# Altium footprint library Sensors.PcbLib: 3 footprints
Each footprint in its own frame and in the unit in brackets; x right, y up, seen from the top. Pads: shape width x height; smd on the part's side, far side on the other; paste and mask are expansions set on the pad; w line width, h text height; cw(c..) or ccw(c..) is an arc to the next point about the centre after c.
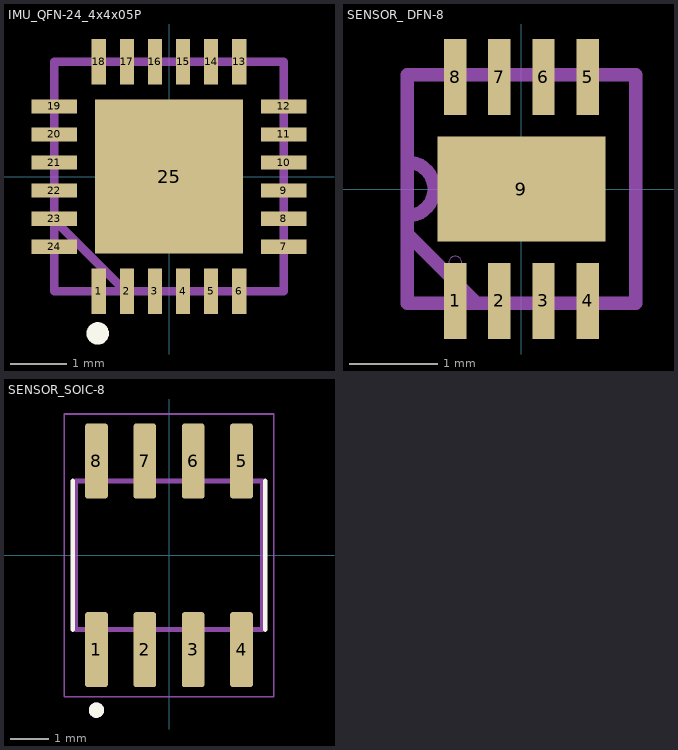
[diagram p0: the footprints below, top view; thin cyan lines are the x and y axes]

## IMU_QFN-24_4x4x05P [mil]
pads (25):
  rect 10x32 smd: 1(-49.21,-80.5) 2(-29.53,-80.5) 3(-9.84,-80.5) 4(9.84,-80.5) 5(29.53,-80.5) 6(49.21,-80.5) 13(49.21,80.5) 14(29.53,80.5) 15(9.84,80.5) 16(-9.84,80.5) 17(-29.53,80.5) 18(-49.21,80.5)
  rect 32x10 smd: 7(80.5,-49.21) 8(80.5,-29.53) 9(80.5,-9.84) 10(80.5,9.84) 11(80.5,29.53) 12(80.5,49.21) 19(-80.5,49.21) 20(-80.5,29.53) 21(-80.5,9.84) 22(-80.5,-9.84) 23(-80.5,-29.53) 24(-80.5,-49.21)
  rect 104x108 smd paste+0: 25(0,0)
Top Overlay:
  circle w7.87: c-50,-110 r3.94
Top Paste:
  region: 0,0 0,10 -10,10 -10,0
  region: 0,0 0,10 -10,10 -10,0
  region: 0,0 0,10 -10,10 -10,0
  region: 0,0 0,10 -10,10 -10,0
Assembly Top:
  lines w6: -80.5,-30.5 -30.5,-80.5 ; -80.5,-80.5 80.5,-80.5 80.5,80.5 -80.5,80.5 -80.5,-80.5 ; -80.5,-55.21 -80.5,-43.21 -80.5,-55.21 ; -80.5,-35.53 -80.5,-23.53 -80.5,-35.53 ; -80.5,-15.84 -80.5,-3.84 -80.5,-15.84 ; -80.5,3.84 -80.5,15.84 -80.5,3.84 ; -80.5,23.53 -80.5,35.53 -80.5,23.53 ; -80.5,43.21 -80.5,55.21 -80.5,43.21 ; -55.21,-80.5 -43.21,-80.5 -55.21,-80.5 ; -55.21,80.5 -43.21,80.5 -55.21,80.5 ; -35.53,-80.5 -23.53,-80.5 -35.53,-80.5 ; -35.53,80.5 -23.53,80.5 -35.53,80.5 ; -15.84,-80.5 -3.84,-80.5 -15.84,-80.5 ; -15.84,80.5 -3.84,80.5 -15.84,80.5 ; 3.84,-80.5 15.84,-80.5 3.84,-80.5 ; 3.84,80.5 15.84,80.5 3.84,80.5 ; 23.53,-80.5 35.53,-80.5 23.53,-80.5 ; 23.53,80.5 35.53,80.5 23.53,80.5 ; 43.21,-80.5 55.21,-80.5 43.21,-80.5 ; 43.21,80.5 55.21,80.5 43.21,80.5 ; 80.5,-55.21 80.5,-43.21 80.5,-55.21 ; 80.5,-35.53 80.5,-23.53 80.5,-35.53 ; 80.5,-15.84 80.5,-3.84 80.5,-15.84 ; 80.5,3.84 80.5,15.84 80.5,3.84 ; 80.5,23.53 80.5,35.53 80.5,23.53 ; 80.5,43.21 80.5,55.21 80.5,43.21
Mechanical 22:
  region: 0,0 10,0 10,10 0,10
  region: 0,0 10,0 10,10 0,10
3D body: height 36.61, standoff -0.79, extent -76.69,-78.74 80.79,78.74

## SENSOR_ DFN-8 [mil]
pads (9):
  rect 10x34 smd: 1(-29.54,-50) 2(-9.85,-50) 3(9.85,-50) 4(29.54,-50) 5(29.54,50) 6(9.85,50) 7(-9.85,50) 8(-29.54,50)
  rect 75x47 smd: 9(0,0)
Assembly Top:
  lines w0: -29.54,-36 cw(c-29.54,-33) -29.54,-30 cw(c-29.54,-33) -29.54,-36
  lines w6: -51,-20 -20,-51 -15,-51 ; -51,-12 ccw(c-51,0) -51,12 ; -51,-51 51,-51 51,51 -51,51 -51,-51
  text "." at -25,-95 h59.06
3D Top:
3D body: height 39.09, standoff 0, extent -50.99,-50.98 50.98,50.99

## SENSOR_SOIC-8 [mm]
height 1.75
pads (8):
  rrect25% 0.6x1.97 smd: 1(-1.905,-2.475) 2(-0.635,-2.475) 3(0.635,-2.475) 4(1.905,-2.475) 5(1.905,2.475) 6(0.635,2.475) 7(-0.635,2.475) 8(-1.905,2.475)
Top Overlay:
  circle w0.2: c-1.905,-4.064 r0.1
  lines w0.127: -2.525,-1.95 -2.525,1.95 ; 2.525,-1.95 2.525,1.95
3D Top:
  circle w0.2: c-1.905,-4.064 r0.1
  lines w0.127: -2.45,-1.95 2.45,-1.95 2.45,1.95 -2.45,1.95 -2.45,-1.95
Courtyard Top:
  lines w0.05: -2.75,-3.71 2.75,-3.71 2.75,3.71 -2.75,3.71 -2.75,-3.71
3D body: height 1.75, standoff 0, extent -2.45,-3 2.45,3